# Altium footprint library SOP-32_11.8x1.27.PcbLib: 1 footprints
Each footprint in its own frame and in the unit in brackets; x right, y up, seen from the top. Pads: shape width x height; smd on the part's side, far side on the other; paste and mask are expansions set on the pad; w line width, h text height; cw(c..) or ccw(c..) is an arc to the next point about the centre after c.
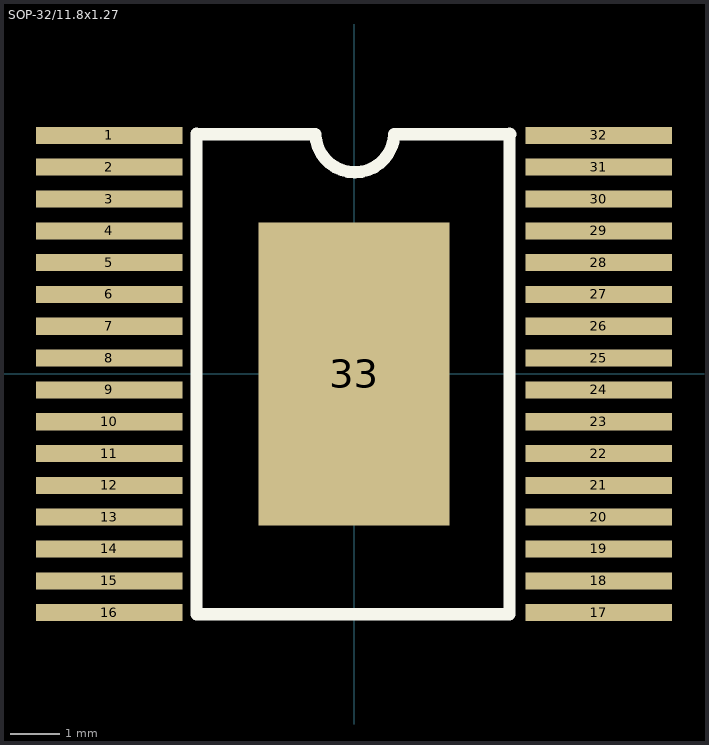
[diagram p0: the footprint, top view; thin cyan lines are the x and y axes]

## SOP-32/11.8x1.27 [mm]
pads (33):
  rect 3x0.35 smd mask+0.05: 1(-5,4.875) 2(-5,4.225) 3(-5,3.575) 4(-5,2.925) 5(-5,2.275) 6(-5,1.625) 7(-5,0.975) 8(-5,0.325) 9(-5,-0.325) 10(-5,-0.975) 11(-5,-1.625) 12(-5,-2.275) 13(-5,-2.925) 14(-5,-3.575) 15(-5,-4.225) 16(-5,-4.875) 17(5,-4.875) 18(5,-4.225) 19(5,-3.575) 20(5,-2.925) 21(5,-2.275) 22(5,-1.625) 23(5,-0.975) 24(5,-0.325) 25(5,0.325) 26(5,0.975) 27(5,1.625) 28(5,2.275) 29(5,2.925) 30(5,3.575) 31(5,4.225) 32(5,4.875)
  rect 3.9x6.2 smd mask+0.05: 33(0,0)
Top Overlay:
  lines w0.25: -3.217,4.911 -3.217,-4.91 3.178,-4.91 3.178,4.911 ; -3.201,4.896 -0.79,4.896 ; -0.79,4.9 ccw(c0.016,4.928) 0.822,4.9 ; 0.822,4.896 3.194,4.896